# EAGLE library part MRF24WB0M (library 1dah)
WiFi adapter
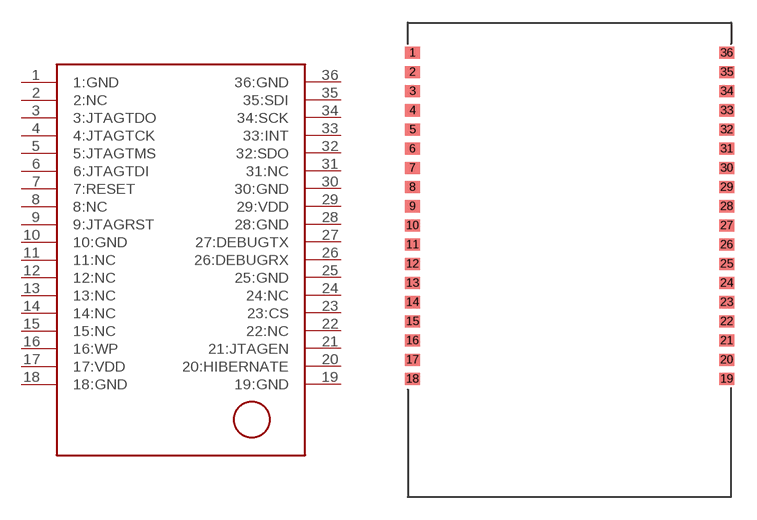
[diagram p54: symbol with the pads of MRF24WB0M; footprint MRF24WB0M]

Designator prefix -

## MRF24WB0M  [MRF24WB0M]
1  1:GND
2  2:NC
3  3:JTAGTDO
4  4:JTAGTCK
5  5:JTAGTMS
6  6:JTAGTDI
7  7:RESET
8  8:NC
9  9:JTAGRST
10  10:GND
11  11:NC
12  12:NC
13  13:NC
14  14:NC
15  15:NC
16  16:WP
17  17:VDD
18  18:GND
19  19:GND
20  20:HIBERNATE
21  21:JTAGEN
22  22:NC
23  23:CS
24  24:NC
25  25:GND
26  26:DEBUGRX
27  27:DEBUGTX
28  28:GND
29  29:VDD
30  30:GND
31  31:NC
32  32:SDO
33  33:INT
34  34:SCK
35  35:SDI
36  36:GND

## Footprint MRF24WB0M (pad centres in mm)
smd 1 x 0.8: 1 -10.4,13.7; 2 -10.4,12.43; 3 -10.4,11.16; 4 -10.4,9.89; 5 -10.4,8.62; 6 -10.4,7.35; 7 -10.4,6.08; 8 -10.4,4.81; 9 -10.4,3.54; 10 -10.4,2.27; 11 -10.4,1; 12 -10.4,-0.27; 13 -10.4,-1.54; 14 -10.4,-2.81; 15 -10.4,-4.08; 16 -10.4,-5.35; 17 -10.4,-6.62; 18 -10.4,-7.89; 19 10.4,-7.89; 20 10.4,-6.62; 21 10.4,-5.35; 22 10.4,-4.08; 23 10.4,-2.81; 24 10.4,-1.54; 25 10.4,-0.27; 26 10.4,1; 27 10.4,2.27; 28 10.4,3.54; 29 10.4,4.81; 30 10.4,6.08; 31 10.4,7.35; 32 10.4,8.62; 33 10.4,9.89; 34 10.4,11.16; 35 10.4,12.43; 36 10.4,13.7